# Altium footprint library Connector_Phoenix_MSTB.PcbLib: 180 footprints (part 2 of 12)
Each footprint in its own frame and in the unit in brackets; x right, y up, seen from the top. Pads: shape width x height; smd on the part's side, far side on the other; paste and mask are expansions set on the pad; w line width, h text height; cw(c..) or ccw(c..) is an arc to the next point about the centre after c.
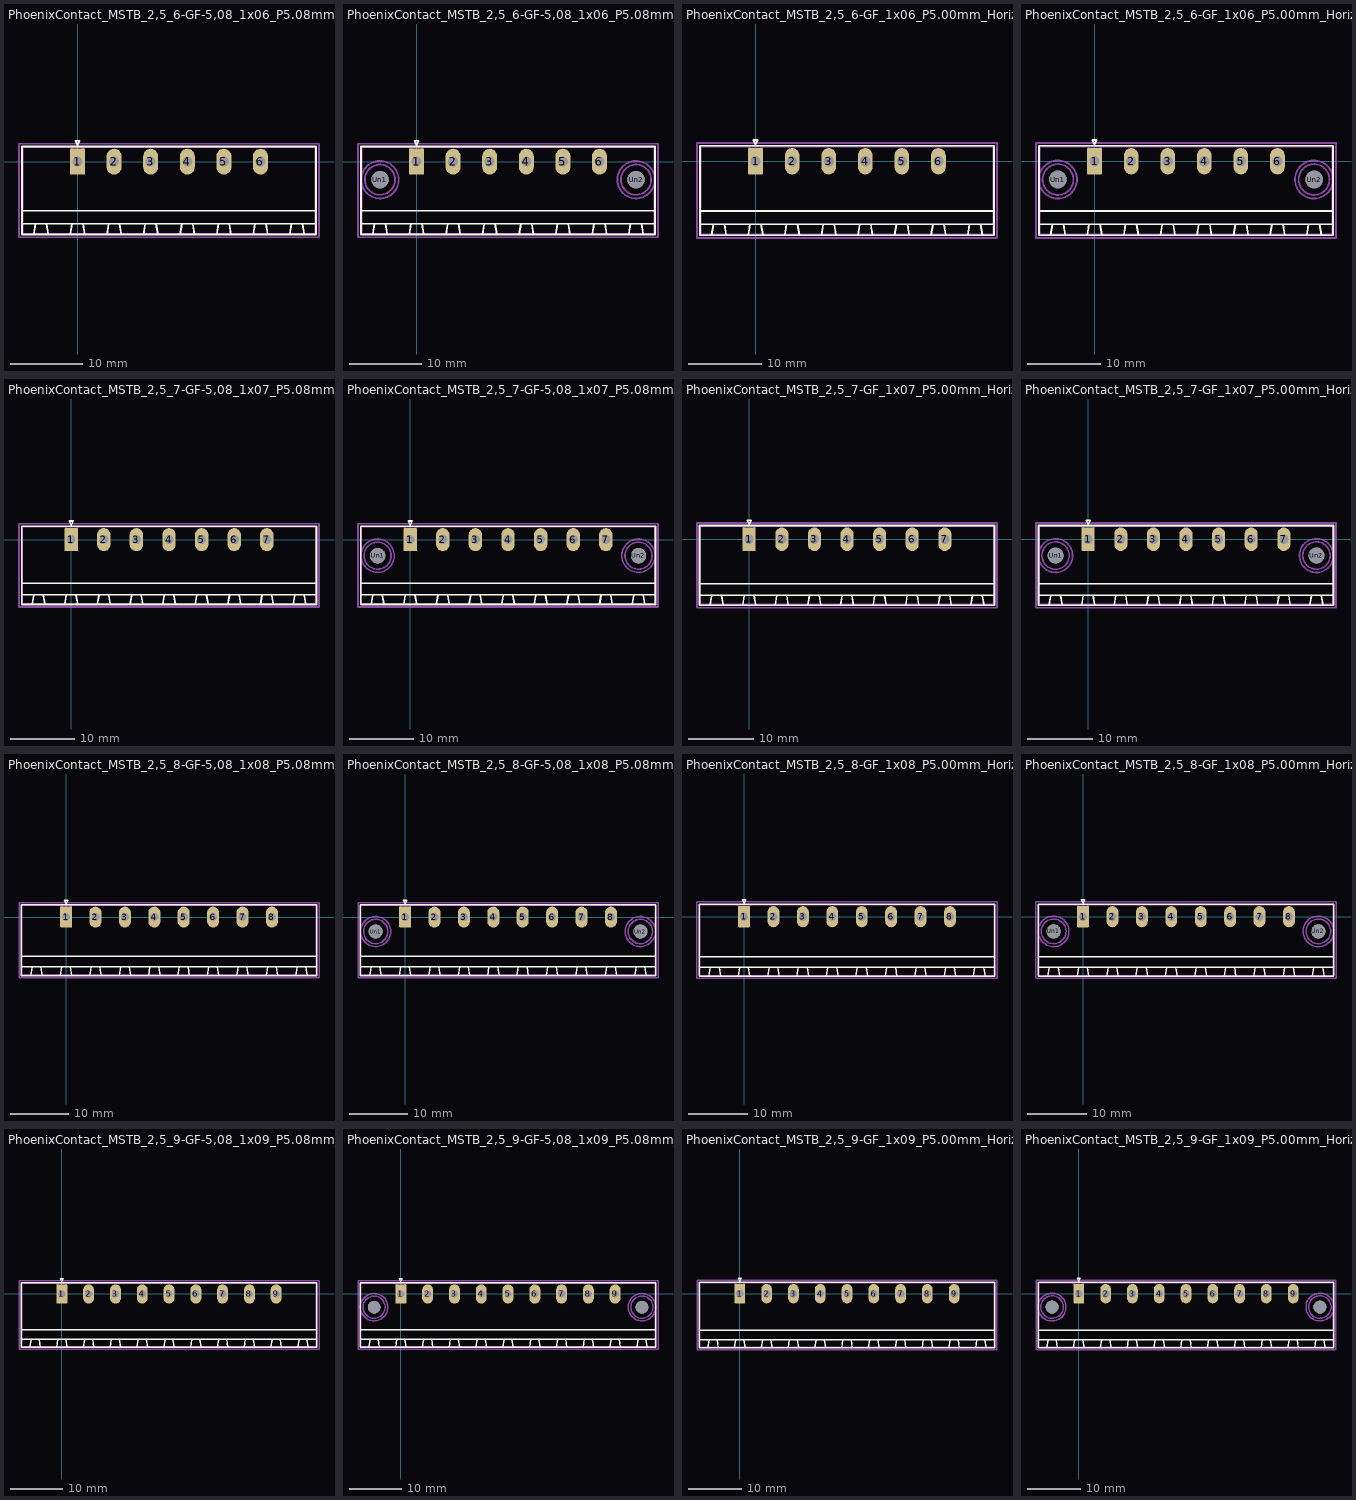
[diagram p1: the footprints below, top view; thin cyan lines are the x and y axes]

## PhoenixContact_MSTB_2,5_6-GF-5,08_1x06_P5.08mm_Horizontal_ThreadedFlange [mm]
pads (6):
  rrect12% 2.08x3.6 hole 1.4: 1(0,0)
  rrect100% 2.08x3.6 hole 1.4: 2(5.08,0) 3(10.16,0) 4(15.24,0) 5(20.32,0) 6(25.4,0)
F.SilkS:
  lines w0.254: -7.73,-10.11 33.13,-10.11 33.13,2.11 -7.73,2.11 -7.73,-10.11 ; -7.73,-8.61 33.13,-8.61 33.13,-6.81 -7.73,-6.81 -7.73,-8.61 ; -6.08,-10.11 -5.83,-8.61 -4.33,-8.61 -4.08,-10.11 -6.08,-10.11 ; -1,-10.11 -0.75,-8.61 0.75,-8.61 1,-10.11 -1,-10.11 ; -0.3,2.91 0,2.31 0.3,2.91 -0.3,2.91 ; 4.08,-10.11 4.33,-8.61 5.83,-8.61 6.08,-10.11 4.08,-10.11 ; 9.16,-10.11 9.41,-8.61 10.91,-8.61 11.16,-10.11 9.16,-10.11 ; 14.24,-10.11 14.49,-8.61 15.99,-8.61 16.24,-10.11 14.24,-10.11 ; 19.32,-10.11 19.57,-8.61 21.07,-8.61 21.32,-10.11 19.32,-10.11 ; 24.4,-10.11 24.65,-8.61 26.15,-8.61 26.4,-10.11 24.4,-10.11 ; 29.48,-10.11 29.73,-8.61 31.23,-8.61 31.48,-10.11 29.48,-10.11
Top Assembly:
  lines w0.254: -0.95,2 0,0.5 0.95,2 ; -7.62,-10 33.02,-10 33.02,2 -7.62,2 -7.62,-10
  text "'.Designator'" at 8.653,0.46 h1
Top Courtyard:
  lines w0.254: -8.13,-10.5 33.53,-10.5 33.53,2.5 -8.13,2.5 -8.13,-10.5
Top Designator:
  text ".Designator" at 5.082,-4.303 h1.52

## PhoenixContact_MSTB_2,5_6-GF-5,08_1x06_P5.08mm_Horizontal_ThreadedFlange_MountHole [mm]
pads (8):
  rrect12% 2.08x3.6 hole 1.4: 1(0,0)
  rrect100% 2.08x3.6 hole 1.4: 2(5.08,0) 3(10.16,0) 4(15.24,0) 5(20.32,0) 6(25.4,0)
  round 2.4 hole 2.4: Un1(-5.08,-2.5) Un2(30.48,-2.5)
F.SilkS:
  lines w0.254: -7.73,-10.11 33.13,-10.11 33.13,2.11 -7.73,2.11 -7.73,-10.11 ; -7.73,-8.61 33.13,-8.61 33.13,-6.81 -7.73,-6.81 -7.73,-8.61 ; -6.08,-10.11 -5.83,-8.61 -4.33,-8.61 -4.08,-10.11 -6.08,-10.11 ; -1,-10.11 -0.75,-8.61 0.75,-8.61 1,-10.11 -1,-10.11 ; -0.3,2.91 0,2.31 0.3,2.91 -0.3,2.91 ; 4.08,-10.11 4.33,-8.61 5.83,-8.61 6.08,-10.11 4.08,-10.11 ; 9.16,-10.11 9.41,-8.61 10.91,-8.61 11.16,-10.11 9.16,-10.11 ; 14.24,-10.11 14.49,-8.61 15.99,-8.61 16.24,-10.11 14.24,-10.11 ; 19.32,-10.11 19.57,-8.61 21.07,-8.61 21.32,-10.11 19.32,-10.11 ; 24.4,-10.11 24.65,-8.61 26.15,-8.61 26.4,-10.11 24.4,-10.11 ; 29.48,-10.11 29.73,-8.61 31.23,-8.61 31.48,-10.11 29.48,-10.11
B.SilkS:
  circle w0.254: c30.48,-2.5 r2.21
  circle w0.254: c-5.08,-2.5 r2.21
Top Assembly:
  lines w0.254: -0.95,2 0,0.5 0.95,2 ; -7.62,-10 33.02,-10 33.02,2 -7.62,2 -7.62,-10
  text "'.Designator'" at 8.653,0.46 h1
Bottom Assembly:
  circle w0.254: c30.48,-2.5 r2.1
  circle w0.254: c-5.08,-2.5 r2.1
Top Courtyard:
  lines w0.254: -8.13,-10.5 33.53,-10.5 33.53,2.5 -8.13,2.5 -8.13,-10.5
Bottom Courtyard:
  circle w0.254: c30.48,-2.5 r2.6
  circle w0.254: c-5.08,-2.5 r2.6
Top Designator:
  text ".Designator" at 5.082,-4.303 h1.52

## PhoenixContact_MSTB_2,5_6-GF_1x06_P5.00mm_Horizontal_ThreadedFlange [mm]
pads (6):
  rrect12% 2x3.6 hole 1.4: 1(0,0)
  rrect100% 2x3.6 hole 1.4: 2(5,0) 3(10,0) 4(15,0) 5(20,0) 6(25,0)
F.SilkS:
  lines w0.254: -7.61,-10.11 32.61,-10.11 32.61,2.11 -7.61,2.11 -7.61,-10.11 ; -7.61,-8.61 32.61,-8.61 32.61,-6.81 -7.61,-6.81 -7.61,-8.61 ; -6,-10.11 -5.75,-8.61 -4.25,-8.61 -4,-10.11 -6,-10.11 ; -1,-10.11 -0.75,-8.61 0.75,-8.61 1,-10.11 -1,-10.11 ; -0.3,2.91 0,2.31 0.3,2.91 -0.3,2.91 ; 4,-10.11 4.25,-8.61 5.75,-8.61 6,-10.11 4,-10.11 ; 9,-10.11 9.25,-8.61 10.75,-8.61 11,-10.11 9,-10.11 ; 14,-10.11 14.25,-8.61 15.75,-8.61 16,-10.11 14,-10.11 ; 19,-10.11 19.25,-8.61 20.75,-8.61 21,-10.11 19,-10.11 ; 24,-10.11 24.25,-8.61 25.75,-8.61 26,-10.11 24,-10.11 ; 29,-10.11 29.25,-8.61 30.75,-8.61 31,-10.11 29,-10.11
Top Assembly:
  lines w0.254: -0.95,2 0,0.5 0.95,2 ; -7.5,-10 32.5,-10 32.5,2 -7.5,2 -7.5,-10
  text "'.Designator'" at 8.453,0.46 h1
Top Courtyard:
  lines w0.254: -8,-10.5 33,-10.5 33,2.5 -8,2.5 -8,-10.5
Top Designator:
  text ".Designator" at 4.882,-4.303 h1.52

## PhoenixContact_MSTB_2,5_6-GF_1x06_P5.00mm_Horizontal_ThreadedFlange_MountHole [mm]
pads (8):
  rrect12% 2x3.6 hole 1.4: 1(0,0)
  rrect100% 2x3.6 hole 1.4: 2(5,0) 3(10,0) 4(15,0) 5(20,0) 6(25,0)
  round 2.4 hole 2.4: Un1(-5,-2.5) Un2(30,-2.5)
F.SilkS:
  lines w0.254: -7.61,-10.11 32.61,-10.11 32.61,2.11 -7.61,2.11 -7.61,-10.11 ; -7.61,-8.61 32.61,-8.61 32.61,-6.81 -7.61,-6.81 -7.61,-8.61 ; -6,-10.11 -5.75,-8.61 -4.25,-8.61 -4,-10.11 -6,-10.11 ; -1,-10.11 -0.75,-8.61 0.75,-8.61 1,-10.11 -1,-10.11 ; -0.3,2.91 0,2.31 0.3,2.91 -0.3,2.91 ; 4,-10.11 4.25,-8.61 5.75,-8.61 6,-10.11 4,-10.11 ; 9,-10.11 9.25,-8.61 10.75,-8.61 11,-10.11 9,-10.11 ; 14,-10.11 14.25,-8.61 15.75,-8.61 16,-10.11 14,-10.11 ; 19,-10.11 19.25,-8.61 20.75,-8.61 21,-10.11 19,-10.11 ; 24,-10.11 24.25,-8.61 25.75,-8.61 26,-10.11 24,-10.11 ; 29,-10.11 29.25,-8.61 30.75,-8.61 31,-10.11 29,-10.11
B.SilkS:
  circle w0.254: c30,-2.5 r2.21
  circle w0.254: c-5,-2.5 r2.21
Top Assembly:
  lines w0.254: -0.95,2 0,0.5 0.95,2 ; -7.5,-10 32.5,-10 32.5,2 -7.5,2 -7.5,-10
  text "'.Designator'" at 8.453,0.46 h1
Bottom Assembly:
  circle w0.254: c30,-2.5 r2.1
  circle w0.254: c-5,-2.5 r2.1
Top Courtyard:
  lines w0.254: -8,-10.5 33,-10.5 33,2.5 -8,2.5 -8,-10.5
Bottom Courtyard:
  circle w0.254: c30,-2.5 r2.6
  circle w0.254: c-5,-2.5 r2.6
Top Designator:
  text ".Designator" at 4.882,-4.303 h1.52

## PhoenixContact_MSTB_2,5_7-GF-5,08_1x07_P5.08mm_Horizontal_ThreadedFlange [mm]
pads (7):
  rrect12% 2.08x3.6 hole 1.4: 1(0,0)
  rrect100% 2.08x3.6 hole 1.4: 2(5.08,0) 3(10.16,0) 4(15.24,0) 5(20.32,0) 6(25.4,0) 7(30.48,0)
F.SilkS:
  lines w0.254: -7.73,-10.11 38.21,-10.11 38.21,2.11 -7.73,2.11 -7.73,-10.11 ; -7.73,-8.61 38.21,-8.61 38.21,-6.81 -7.73,-6.81 -7.73,-8.61 ; -6.08,-10.11 -5.83,-8.61 -4.33,-8.61 -4.08,-10.11 -6.08,-10.11 ; -1,-10.11 -0.75,-8.61 0.75,-8.61 1,-10.11 -1,-10.11 ; -0.3,2.91 0,2.31 0.3,2.91 -0.3,2.91 ; 4.08,-10.11 4.33,-8.61 5.83,-8.61 6.08,-10.11 4.08,-10.11 ; 9.16,-10.11 9.41,-8.61 10.91,-8.61 11.16,-10.11 9.16,-10.11 ; 14.24,-10.11 14.49,-8.61 15.99,-8.61 16.24,-10.11 14.24,-10.11 ; 19.32,-10.11 19.57,-8.61 21.07,-8.61 21.32,-10.11 19.32,-10.11 ; 24.4,-10.11 24.65,-8.61 26.15,-8.61 26.4,-10.11 24.4,-10.11 ; 29.48,-10.11 29.73,-8.61 31.23,-8.61 31.48,-10.11 29.48,-10.11 ; 34.56,-10.11 34.81,-8.61 36.31,-8.61 36.56,-10.11 34.56,-10.11
Top Assembly:
  lines w0.254: -0.95,2 0,0.5 0.95,2 ; -7.62,-10 38.1,-10 38.1,2 -7.62,2 -7.62,-10
  text "'.Designator'" at 11.193,0.46 h1
Top Courtyard:
  lines w0.254: -8.13,-10.5 38.6,-10.5 38.6,2.5 -8.13,2.5 -8.13,-10.5
Top Designator:
  text ".Designator" at 7.617,-4.303 h1.52

## PhoenixContact_MSTB_2,5_7-GF-5,08_1x07_P5.08mm_Horizontal_ThreadedFlange_MountHole [mm]
pads (9):
  rrect12% 2.08x3.6 hole 1.4: 1(0,0)
  rrect100% 2.08x3.6 hole 1.4: 2(5.08,0) 3(10.16,0) 4(15.24,0) 5(20.32,0) 6(25.4,0) 7(30.48,0)
  round 2.4 hole 2.4: Un1(-5.08,-2.5) Un2(35.56,-2.5)
F.SilkS:
  lines w0.254: -7.73,-10.11 38.21,-10.11 38.21,2.11 -7.73,2.11 -7.73,-10.11 ; -7.73,-8.61 38.21,-8.61 38.21,-6.81 -7.73,-6.81 -7.73,-8.61 ; -6.08,-10.11 -5.83,-8.61 -4.33,-8.61 -4.08,-10.11 -6.08,-10.11 ; -1,-10.11 -0.75,-8.61 0.75,-8.61 1,-10.11 -1,-10.11 ; -0.3,2.91 0,2.31 0.3,2.91 -0.3,2.91 ; 4.08,-10.11 4.33,-8.61 5.83,-8.61 6.08,-10.11 4.08,-10.11 ; 9.16,-10.11 9.41,-8.61 10.91,-8.61 11.16,-10.11 9.16,-10.11 ; 14.24,-10.11 14.49,-8.61 15.99,-8.61 16.24,-10.11 14.24,-10.11 ; 19.32,-10.11 19.57,-8.61 21.07,-8.61 21.32,-10.11 19.32,-10.11 ; 24.4,-10.11 24.65,-8.61 26.15,-8.61 26.4,-10.11 24.4,-10.11 ; 29.48,-10.11 29.73,-8.61 31.23,-8.61 31.48,-10.11 29.48,-10.11 ; 34.56,-10.11 34.81,-8.61 36.31,-8.61 36.56,-10.11 34.56,-10.11
B.SilkS:
  circle w0.254: c35.56,-2.5 r2.21
  circle w0.254: c-5.08,-2.5 r2.21
Top Assembly:
  lines w0.254: -0.95,2 0,0.5 0.95,2 ; -7.62,-10 38.1,-10 38.1,2 -7.62,2 -7.62,-10
  text "'.Designator'" at 11.193,0.46 h1
Bottom Assembly:
  circle w0.254: c35.56,-2.5 r2.1
  circle w0.254: c-5.08,-2.5 r2.1
Top Courtyard:
  lines w0.254: -8.13,-10.5 38.6,-10.5 38.6,2.5 -8.13,2.5 -8.13,-10.5
Bottom Courtyard:
  circle w0.254: c35.56,-2.5 r2.6
  circle w0.254: c-5.08,-2.5 r2.6
Top Designator:
  text ".Designator" at 7.617,-4.303 h1.52

## PhoenixContact_MSTB_2,5_7-GF_1x07_P5.00mm_Horizontal_ThreadedFlange [mm]
pads (7):
  rrect12% 2x3.6 hole 1.4: 1(0,0)
  rrect100% 2x3.6 hole 1.4: 2(5,0) 3(10,0) 4(15,0) 5(20,0) 6(25,0) 7(30,0)
F.SilkS:
  lines w0.254: -7.61,-10.11 37.61,-10.11 37.61,2.11 -7.61,2.11 -7.61,-10.11 ; -7.61,-8.61 37.61,-8.61 37.61,-6.81 -7.61,-6.81 -7.61,-8.61 ; -6,-10.11 -5.75,-8.61 -4.25,-8.61 -4,-10.11 -6,-10.11 ; -1,-10.11 -0.75,-8.61 0.75,-8.61 1,-10.11 -1,-10.11 ; -0.3,2.91 0,2.31 0.3,2.91 -0.3,2.91 ; 4,-10.11 4.25,-8.61 5.75,-8.61 6,-10.11 4,-10.11 ; 9,-10.11 9.25,-8.61 10.75,-8.61 11,-10.11 9,-10.11 ; 14,-10.11 14.25,-8.61 15.75,-8.61 16,-10.11 14,-10.11 ; 19,-10.11 19.25,-8.61 20.75,-8.61 21,-10.11 19,-10.11 ; 24,-10.11 24.25,-8.61 25.75,-8.61 26,-10.11 24,-10.11 ; 29,-10.11 29.25,-8.61 30.75,-8.61 31,-10.11 29,-10.11 ; 34,-10.11 34.25,-8.61 35.75,-8.61 36,-10.11 34,-10.11
Top Assembly:
  lines w0.254: -0.95,2 0,0.5 0.95,2 ; -7.5,-10 37.5,-10 37.5,2 -7.5,2 -7.5,-10
  text "'.Designator'" at 10.953,0.46 h1
Top Courtyard:
  lines w0.254: -8,-10.5 38,-10.5 38,2.5 -8,2.5 -8,-10.5
Top Designator:
  text ".Designator" at 7.382,-4.303 h1.52

## PhoenixContact_MSTB_2,5_7-GF_1x07_P5.00mm_Horizontal_ThreadedFlange_MountHole [mm]
pads (9):
  rrect12% 2x3.6 hole 1.4: 1(0,0)
  rrect100% 2x3.6 hole 1.4: 2(5,0) 3(10,0) 4(15,0) 5(20,0) 6(25,0) 7(30,0)
  round 2.4 hole 2.4: Un1(-5,-2.5) Un2(35,-2.5)
F.SilkS:
  lines w0.254: -7.61,-10.11 37.61,-10.11 37.61,2.11 -7.61,2.11 -7.61,-10.11 ; -7.61,-8.61 37.61,-8.61 37.61,-6.81 -7.61,-6.81 -7.61,-8.61 ; -6,-10.11 -5.75,-8.61 -4.25,-8.61 -4,-10.11 -6,-10.11 ; -1,-10.11 -0.75,-8.61 0.75,-8.61 1,-10.11 -1,-10.11 ; -0.3,2.91 0,2.31 0.3,2.91 -0.3,2.91 ; 4,-10.11 4.25,-8.61 5.75,-8.61 6,-10.11 4,-10.11 ; 9,-10.11 9.25,-8.61 10.75,-8.61 11,-10.11 9,-10.11 ; 14,-10.11 14.25,-8.61 15.75,-8.61 16,-10.11 14,-10.11 ; 19,-10.11 19.25,-8.61 20.75,-8.61 21,-10.11 19,-10.11 ; 24,-10.11 24.25,-8.61 25.75,-8.61 26,-10.11 24,-10.11 ; 29,-10.11 29.25,-8.61 30.75,-8.61 31,-10.11 29,-10.11 ; 34,-10.11 34.25,-8.61 35.75,-8.61 36,-10.11 34,-10.11
B.SilkS:
  circle w0.254: c35,-2.5 r2.21
  circle w0.254: c-5,-2.5 r2.21
Top Assembly:
  lines w0.254: -0.95,2 0,0.5 0.95,2 ; -7.5,-10 37.5,-10 37.5,2 -7.5,2 -7.5,-10
  text "'.Designator'" at 10.953,0.46 h1
Bottom Assembly:
  circle w0.254: c35,-2.5 r2.1
  circle w0.254: c-5,-2.5 r2.1
Top Courtyard:
  lines w0.254: -8,-10.5 38,-10.5 38,2.5 -8,2.5 -8,-10.5
Bottom Courtyard:
  circle w0.254: c35,-2.5 r2.6
  circle w0.254: c-5,-2.5 r2.6
Top Designator:
  text ".Designator" at 7.382,-4.303 h1.52

## PhoenixContact_MSTB_2,5_8-GF-5,08_1x08_P5.08mm_Horizontal_ThreadedFlange [mm]
pads (8):
  rrect12% 2.08x3.6 hole 1.4: 1(0,0)
  rrect100% 2.08x3.6 hole 1.4: 2(5.08,0) 3(10.16,0) 4(15.24,0) 5(20.32,0) 6(25.4,0) 7(30.48,0) 8(35.56,0)
F.SilkS:
  lines w0.254: -7.73,-10.11 43.29,-10.11 43.29,2.11 -7.73,2.11 -7.73,-10.11 ; -7.73,-8.61 43.29,-8.61 43.29,-6.81 -7.73,-6.81 -7.73,-8.61 ; -6.08,-10.11 -5.83,-8.61 -4.33,-8.61 -4.08,-10.11 -6.08,-10.11 ; -1,-10.11 -0.75,-8.61 0.75,-8.61 1,-10.11 -1,-10.11 ; -0.3,2.91 0,2.31 0.3,2.91 -0.3,2.91 ; 4.08,-10.11 4.33,-8.61 5.83,-8.61 6.08,-10.11 4.08,-10.11 ; 9.16,-10.11 9.41,-8.61 10.91,-8.61 11.16,-10.11 9.16,-10.11 ; 14.24,-10.11 14.49,-8.61 15.99,-8.61 16.24,-10.11 14.24,-10.11 ; 19.32,-10.11 19.57,-8.61 21.07,-8.61 21.32,-10.11 19.32,-10.11 ; 24.4,-10.11 24.65,-8.61 26.15,-8.61 26.4,-10.11 24.4,-10.11 ; 29.48,-10.11 29.73,-8.61 31.23,-8.61 31.48,-10.11 29.48,-10.11 ; 34.56,-10.11 34.81,-8.61 36.31,-8.61 36.56,-10.11 34.56,-10.11 ; 39.64,-10.11 39.89,-8.61 41.39,-8.61 41.64,-10.11 39.64,-10.11
Top Assembly:
  lines w0.254: -0.95,2 0,0.5 0.95,2 ; -7.62,-10 43.18,-10 43.18,2 -7.62,2 -7.62,-10
  text "'.Designator'" at 13.733,0.46 h1
Top Courtyard:
  lines w0.254: -8.13,-10.5 43.69,-10.5 43.69,2.5 -8.13,2.5 -8.13,-10.5
Top Designator:
  text ".Designator" at 10.162,-4.303 h1.52

## PhoenixContact_MSTB_2,5_8-GF-5,08_1x08_P5.08mm_Horizontal_ThreadedFlange_MountHole [mm]
pads (10):
  rrect12% 2.08x3.6 hole 1.4: 1(0,0)
  rrect100% 2.08x3.6 hole 1.4: 2(5.08,0) 3(10.16,0) 4(15.24,0) 5(20.32,0) 6(25.4,0) 7(30.48,0) 8(35.56,0)
  round 2.4 hole 2.4: Un1(-5.08,-2.5) Un2(40.64,-2.5)
F.SilkS:
  lines w0.254: -7.73,-10.11 43.29,-10.11 43.29,2.11 -7.73,2.11 -7.73,-10.11 ; -7.73,-8.61 43.29,-8.61 43.29,-6.81 -7.73,-6.81 -7.73,-8.61 ; -6.08,-10.11 -5.83,-8.61 -4.33,-8.61 -4.08,-10.11 -6.08,-10.11 ; -1,-10.11 -0.75,-8.61 0.75,-8.61 1,-10.11 -1,-10.11 ; -0.3,2.91 0,2.31 0.3,2.91 -0.3,2.91 ; 4.08,-10.11 4.33,-8.61 5.83,-8.61 6.08,-10.11 4.08,-10.11 ; 9.16,-10.11 9.41,-8.61 10.91,-8.61 11.16,-10.11 9.16,-10.11 ; 14.24,-10.11 14.49,-8.61 15.99,-8.61 16.24,-10.11 14.24,-10.11 ; 19.32,-10.11 19.57,-8.61 21.07,-8.61 21.32,-10.11 19.32,-10.11 ; 24.4,-10.11 24.65,-8.61 26.15,-8.61 26.4,-10.11 24.4,-10.11 ; 29.48,-10.11 29.73,-8.61 31.23,-8.61 31.48,-10.11 29.48,-10.11 ; 34.56,-10.11 34.81,-8.61 36.31,-8.61 36.56,-10.11 34.56,-10.11 ; 39.64,-10.11 39.89,-8.61 41.39,-8.61 41.64,-10.11 39.64,-10.11
B.SilkS:
  circle w0.254: c40.64,-2.5 r2.21
  circle w0.254: c-5.08,-2.5 r2.21
Top Assembly:
  lines w0.254: -0.95,2 0,0.5 0.95,2 ; -7.62,-10 43.18,-10 43.18,2 -7.62,2 -7.62,-10
  text "'.Designator'" at 13.733,0.46 h1
Bottom Assembly:
  circle w0.254: c40.64,-2.5 r2.1
  circle w0.254: c-5.08,-2.5 r2.1
Top Courtyard:
  lines w0.254: -8.13,-10.5 43.69,-10.5 43.69,2.5 -8.13,2.5 -8.13,-10.5
Bottom Courtyard:
  circle w0.254: c40.64,-2.5 r2.6
  circle w0.254: c-5.08,-2.5 r2.6
Top Designator:
  text ".Designator" at 10.162,-4.303 h1.52

## PhoenixContact_MSTB_2,5_8-GF_1x08_P5.00mm_Horizontal_ThreadedFlange [mm]
pads (8):
  rrect12% 2x3.6 hole 1.4: 1(0,0)
  rrect100% 2x3.6 hole 1.4: 2(5,0) 3(10,0) 4(15,0) 5(20,0) 6(25,0) 7(30,0) 8(35,0)
F.SilkS:
  lines w0.254: -7.61,-10.11 42.61,-10.11 42.61,2.11 -7.61,2.11 -7.61,-10.11 ; -7.61,-8.61 42.61,-8.61 42.61,-6.81 -7.61,-6.81 -7.61,-8.61 ; -6,-10.11 -5.75,-8.61 -4.25,-8.61 -4,-10.11 -6,-10.11 ; -1,-10.11 -0.75,-8.61 0.75,-8.61 1,-10.11 -1,-10.11 ; -0.3,2.91 0,2.31 0.3,2.91 -0.3,2.91 ; 4,-10.11 4.25,-8.61 5.75,-8.61 6,-10.11 4,-10.11 ; 9,-10.11 9.25,-8.61 10.75,-8.61 11,-10.11 9,-10.11 ; 14,-10.11 14.25,-8.61 15.75,-8.61 16,-10.11 14,-10.11 ; 19,-10.11 19.25,-8.61 20.75,-8.61 21,-10.11 19,-10.11 ; 24,-10.11 24.25,-8.61 25.75,-8.61 26,-10.11 24,-10.11 ; 29,-10.11 29.25,-8.61 30.75,-8.61 31,-10.11 29,-10.11 ; 34,-10.11 34.25,-8.61 35.75,-8.61 36,-10.11 34,-10.11 ; 39,-10.11 39.25,-8.61 40.75,-8.61 41,-10.11 39,-10.11
Top Assembly:
  lines w0.254: -0.95,2 0,0.5 0.95,2 ; -7.5,-10 42.5,-10 42.5,2 -7.5,2 -7.5,-10
  text "'.Designator'" at 13.453,0.46 h1
Top Courtyard:
  lines w0.254: -8,-10.5 43,-10.5 43,2.5 -8,2.5 -8,-10.5
Top Designator:
  text ".Designator" at 9.882,-4.303 h1.52

## PhoenixContact_MSTB_2,5_8-GF_1x08_P5.00mm_Horizontal_ThreadedFlange_MountHole [mm]
pads (10):
  rrect12% 2x3.6 hole 1.4: 1(0,0)
  rrect100% 2x3.6 hole 1.4: 2(5,0) 3(10,0) 4(15,0) 5(20,0) 6(25,0) 7(30,0) 8(35,0)
  round 2.4 hole 2.4: Un1(-5,-2.5) Un2(40,-2.5)
F.SilkS:
  lines w0.254: -7.61,-10.11 42.61,-10.11 42.61,2.11 -7.61,2.11 -7.61,-10.11 ; -7.61,-8.61 42.61,-8.61 42.61,-6.81 -7.61,-6.81 -7.61,-8.61 ; -6,-10.11 -5.75,-8.61 -4.25,-8.61 -4,-10.11 -6,-10.11 ; -1,-10.11 -0.75,-8.61 0.75,-8.61 1,-10.11 -1,-10.11 ; -0.3,2.91 0,2.31 0.3,2.91 -0.3,2.91 ; 4,-10.11 4.25,-8.61 5.75,-8.61 6,-10.11 4,-10.11 ; 9,-10.11 9.25,-8.61 10.75,-8.61 11,-10.11 9,-10.11 ; 14,-10.11 14.25,-8.61 15.75,-8.61 16,-10.11 14,-10.11 ; 19,-10.11 19.25,-8.61 20.75,-8.61 21,-10.11 19,-10.11 ; 24,-10.11 24.25,-8.61 25.75,-8.61 26,-10.11 24,-10.11 ; 29,-10.11 29.25,-8.61 30.75,-8.61 31,-10.11 29,-10.11 ; 34,-10.11 34.25,-8.61 35.75,-8.61 36,-10.11 34,-10.11 ; 39,-10.11 39.25,-8.61 40.75,-8.61 41,-10.11 39,-10.11
B.SilkS:
  circle w0.254: c40,-2.5 r2.21
  circle w0.254: c-5,-2.5 r2.21
Top Assembly:
  lines w0.254: -0.95,2 0,0.5 0.95,2 ; -7.5,-10 42.5,-10 42.5,2 -7.5,2 -7.5,-10
  text "'.Designator'" at 13.453,0.46 h1
Bottom Assembly:
  circle w0.254: c40,-2.5 r2.1
  circle w0.254: c-5,-2.5 r2.1
Top Courtyard:
  lines w0.254: -8,-10.5 43,-10.5 43,2.5 -8,2.5 -8,-10.5
Bottom Courtyard:
  circle w0.254: c40,-2.5 r2.6
  circle w0.254: c-5,-2.5 r2.6
Top Designator:
  text ".Designator" at 9.882,-4.303 h1.52

## PhoenixContact_MSTB_2,5_9-GF-5,08_1x09_P5.08mm_Horizontal_ThreadedFlange [mm]
pads (9):
  rrect12% 2.08x3.6 hole 1.4: 1(0,0)
  rrect100% 2.08x3.6 hole 1.4: 2(5.08,0) 3(10.16,0) 4(15.24,0) 5(20.32,0) 6(25.4,0) 7(30.48,0) 8(35.56,0) 9(40.64,0)
F.SilkS:
  lines w0.254: -7.73,-10.11 48.37,-10.11 48.37,2.11 -7.73,2.11 -7.73,-10.11 ; -7.73,-8.61 48.37,-8.61 48.37,-6.81 -7.73,-6.81 -7.73,-8.61 ; -6.08,-10.11 -5.83,-8.61 -4.33,-8.61 -4.08,-10.11 -6.08,-10.11 ; -1,-10.11 -0.75,-8.61 0.75,-8.61 1,-10.11 -1,-10.11 ; -0.3,2.91 0,2.31 0.3,2.91 -0.3,2.91 ; 4.08,-10.11 4.33,-8.61 5.83,-8.61 6.08,-10.11 4.08,-10.11 ; 9.16,-10.11 9.41,-8.61 10.91,-8.61 11.16,-10.11 9.16,-10.11 ; 14.24,-10.11 14.49,-8.61 15.99,-8.61 16.24,-10.11 14.24,-10.11 ; 19.32,-10.11 19.57,-8.61 21.07,-8.61 21.32,-10.11 19.32,-10.11 ; 24.4,-10.11 24.65,-8.61 26.15,-8.61 26.4,-10.11 24.4,-10.11 ; 29.48,-10.11 29.73,-8.61 31.23,-8.61 31.48,-10.11 29.48,-10.11 ; 34.56,-10.11 34.81,-8.61 36.31,-8.61 36.56,-10.11 34.56,-10.11 ; 39.64,-10.11 39.89,-8.61 41.39,-8.61 41.64,-10.11 39.64,-10.11 ; 44.72,-10.11 44.97,-8.61 46.47,-8.61 46.72,-10.11 44.72,-10.11
Top Assembly:
  lines w0.254: -0.95,2 0,0.5 0.95,2 ; -7.62,-10 48.26,-10 48.26,2 -7.62,2 -7.62,-10
  text "'.Designator'" at 16.273,0.46 h1
Top Courtyard:
  lines w0.254: -8.13,-10.5 48.76,-10.5 48.76,2.5 -8.13,2.5 -8.13,-10.5
Top Designator:
  text ".Designator" at 12.697,-4.303 h1.52

## PhoenixContact_MSTB_2,5_9-GF-5,08_1x09_P5.08mm_Horizontal_ThreadedFlange_MountHole [mm]
pads (11):
  rrect12% 2.08x3.6 hole 1.4: 1(0,0)
  rrect100% 2.08x3.6 hole 1.4: 2(5.08,0) 3(10.16,0) 4(15.24,0) 5(20.32,0) 6(25.4,0) 7(30.48,0) 8(35.56,0) 9(40.64,0)
  round 2.4 hole 2.4: Un1(-5.08,-2.5) Un2(45.72,-2.5)
F.SilkS:
  lines w0.254: -7.73,-10.11 48.37,-10.11 48.37,2.11 -7.73,2.11 -7.73,-10.11 ; -7.73,-8.61 48.37,-8.61 48.37,-6.81 -7.73,-6.81 -7.73,-8.61 ; -6.08,-10.11 -5.83,-8.61 -4.33,-8.61 -4.08,-10.11 -6.08,-10.11 ; -1,-10.11 -0.75,-8.61 0.75,-8.61 1,-10.11 -1,-10.11 ; -0.3,2.91 0,2.31 0.3,2.91 -0.3,2.91 ; 4.08,-10.11 4.33,-8.61 5.83,-8.61 6.08,-10.11 4.08,-10.11 ; 9.16,-10.11 9.41,-8.61 10.91,-8.61 11.16,-10.11 9.16,-10.11 ; 14.24,-10.11 14.49,-8.61 15.99,-8.61 16.24,-10.11 14.24,-10.11 ; 19.32,-10.11 19.57,-8.61 21.07,-8.61 21.32,-10.11 19.32,-10.11 ; 24.4,-10.11 24.65,-8.61 26.15,-8.61 26.4,-10.11 24.4,-10.11 ; 29.48,-10.11 29.73,-8.61 31.23,-8.61 31.48,-10.11 29.48,-10.11 ; 34.56,-10.11 34.81,-8.61 36.31,-8.61 36.56,-10.11 34.56,-10.11 ; 39.64,-10.11 39.89,-8.61 41.39,-8.61 41.64,-10.11 39.64,-10.11 ; 44.72,-10.11 44.97,-8.61 46.47,-8.61 46.72,-10.11 44.72,-10.11
B.SilkS:
  circle w0.254: c45.72,-2.5 r2.21
  circle w0.254: c-5.08,-2.5 r2.21
Top Assembly:
  lines w0.254: -0.95,2 0,0.5 0.95,2 ; -7.62,-10 48.26,-10 48.26,2 -7.62,2 -7.62,-10
  text "'.Designator'" at 16.273,0.46 h1
Bottom Assembly:
  circle w0.254: c45.72,-2.5 r2.1
  circle w0.254: c-5.08,-2.5 r2.1
Top Courtyard:
  lines w0.254: -8.13,-10.5 48.76,-10.5 48.76,2.5 -8.13,2.5 -8.13,-10.5
Bottom Courtyard:
  circle w0.254: c45.72,-2.5 r2.6
  circle w0.254: c-5.08,-2.5 r2.6
Top Designator:
  text ".Designator" at 12.697,-4.303 h1.52

## PhoenixContact_MSTB_2,5_9-GF_1x09_P5.00mm_Horizontal_ThreadedFlange [mm]
pads (9):
  rrect12% 2x3.6 hole 1.4: 1(0,0)
  rrect100% 2x3.6 hole 1.4: 2(5,0) 3(10,0) 4(15,0) 5(20,0) 6(25,0) 7(30,0) 8(35,0) 9(40,0)
F.SilkS:
  lines w0.254: -7.61,-10.11 47.61,-10.11 47.61,2.11 -7.61,2.11 -7.61,-10.11 ; -7.61,-8.61 47.61,-8.61 47.61,-6.81 -7.61,-6.81 -7.61,-8.61 ; -6,-10.11 -5.75,-8.61 -4.25,-8.61 -4,-10.11 -6,-10.11 ; -1,-10.11 -0.75,-8.61 0.75,-8.61 1,-10.11 -1,-10.11 ; -0.3,2.91 0,2.31 0.3,2.91 -0.3,2.91 ; 4,-10.11 4.25,-8.61 5.75,-8.61 6,-10.11 4,-10.11 ; 9,-10.11 9.25,-8.61 10.75,-8.61 11,-10.11 9,-10.11 ; 14,-10.11 14.25,-8.61 15.75,-8.61 16,-10.11 14,-10.11 ; 19,-10.11 19.25,-8.61 20.75,-8.61 21,-10.11 19,-10.11 ; 24,-10.11 24.25,-8.61 25.75,-8.61 26,-10.11 24,-10.11 ; 29,-10.11 29.25,-8.61 30.75,-8.61 31,-10.11 29,-10.11 ; 34,-10.11 34.25,-8.61 35.75,-8.61 36,-10.11 34,-10.11 ; 39,-10.11 39.25,-8.61 40.75,-8.61 41,-10.11 39,-10.11 ; 44,-10.11 44.25,-8.61 45.75,-8.61 46,-10.11 44,-10.11
Top Assembly:
  lines w0.254: -0.95,2 0,0.5 0.95,2 ; -7.5,-10 47.5,-10 47.5,2 -7.5,2 -7.5,-10
  text "'.Designator'" at 15.953,0.46 h1
Top Courtyard:
  lines w0.254: -8,-10.5 48,-10.5 48,2.5 -8,2.5 -8,-10.5
Top Designator:
  text ".Designator" at 12.382,-4.303 h1.52

## PhoenixContact_MSTB_2,5_9-GF_1x09_P5.00mm_Horizontal_ThreadedFlange_MountHole [mm]
pads (11):
  rrect12% 2x3.6 hole 1.4: 1(0,0)
  rrect100% 2x3.6 hole 1.4: 2(5,0) 3(10,0) 4(15,0) 5(20,0) 6(25,0) 7(30,0) 8(35,0) 9(40,0)
  round 2.4 hole 2.4: Un1(-5,-2.5) Un2(45,-2.5)
F.SilkS:
  lines w0.254: -7.61,-10.11 47.61,-10.11 47.61,2.11 -7.61,2.11 -7.61,-10.11 ; -7.61,-8.61 47.61,-8.61 47.61,-6.81 -7.61,-6.81 -7.61,-8.61 ; -6,-10.11 -5.75,-8.61 -4.25,-8.61 -4,-10.11 -6,-10.11 ; -1,-10.11 -0.75,-8.61 0.75,-8.61 1,-10.11 -1,-10.11 ; -0.3,2.91 0,2.31 0.3,2.91 -0.3,2.91 ; 4,-10.11 4.25,-8.61 5.75,-8.61 6,-10.11 4,-10.11 ; 9,-10.11 9.25,-8.61 10.75,-8.61 11,-10.11 9,-10.11 ; 14,-10.11 14.25,-8.61 15.75,-8.61 16,-10.11 14,-10.11 ; 19,-10.11 19.25,-8.61 20.75,-8.61 21,-10.11 19,-10.11 ; 24,-10.11 24.25,-8.61 25.75,-8.61 26,-10.11 24,-10.11 ; 29,-10.11 29.25,-8.61 30.75,-8.61 31,-10.11 29,-10.11 ; 34,-10.11 34.25,-8.61 35.75,-8.61 36,-10.11 34,-10.11 ; 39,-10.11 39.25,-8.61 40.75,-8.61 41,-10.11 39,-10.11 ; 44,-10.11 44.25,-8.61 45.75,-8.61 46,-10.11 44,-10.11
B.SilkS:
  circle w0.254: c45,-2.5 r2.21
  circle w0.254: c-5,-2.5 r2.21
Top Assembly:
  lines w0.254: -0.95,2 0,0.5 0.95,2 ; -7.5,-10 47.5,-10 47.5,2 -7.5,2 -7.5,-10
  text "'.Designator'" at 15.953,0.46 h1
Bottom Assembly:
  circle w0.254: c45,-2.5 r2.1
  circle w0.254: c-5,-2.5 r2.1
Top Courtyard:
  lines w0.254: -8,-10.5 48,-10.5 48,2.5 -8,2.5 -8,-10.5
Bottom Courtyard:
  circle w0.254: c45,-2.5 r2.6
  circle w0.254: c-5,-2.5 r2.6
Top Designator:
  text ".Designator" at 12.382,-4.303 h1.52